# Altium footprint library 模拟光伏追踪系统封装库.PcbLib: 24 footprints (part 2 of 2)
Each footprint in its own frame and in the unit in brackets; x right, y up, seen from the top. Pads: shape width x height; smd on the part's side, far side on the other; paste and mask are expansions set on the pad; w line width, h text height; cw(c..) or ccw(c..) is an arc to the next point about the centre after c.
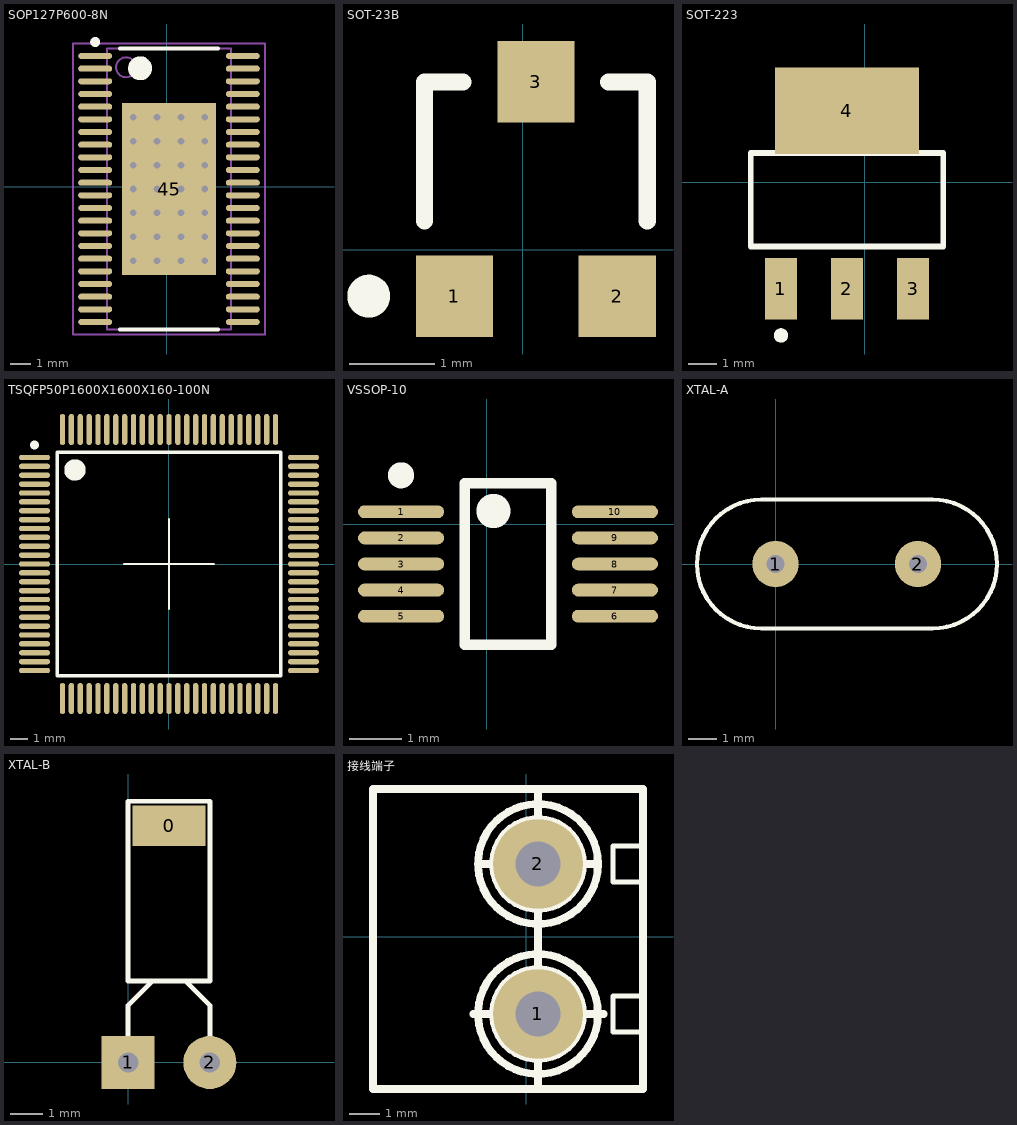
[diagram p1: the footprints below, top view; thin cyan lines are the x and y axes]

## SOP127P600-8N [mm]
pads (45):
  oval 1.7x0.3 smd: 1(-3.598,6.566) 2(-3.598,5.931) 3(-3.598,5.296) 4(-3.598,4.661) 5(-3.598,4.026) 6(-3.598,3.391) 7(-3.598,2.756) 8(-3.598,2.121) 9(-3.598,1.486) 10(-3.598,0.851) 11(-3.598,0.216) 12(-3.598,-0.419) 13(-3.598,-1.054) 14(-3.598,-1.689) 15(-3.598,-2.324) 16(-3.598,-2.959) 17(-3.598,-3.594) 18(-3.598,-4.229) 19(-3.598,-4.864) 20(-3.598,-5.499) 21(-3.598,-6.134) 22(-3.598,-6.769) 23(3.802,-6.769) 24(3.802,-6.134) 25(3.802,-5.499) 26(3.802,-4.864) 27(3.802,-4.229) 28(3.802,-3.594) 29(3.802,-2.959) 30(3.802,-2.324) 31(3.802,-1.689) 32(3.802,-1.054) 33(3.802,-0.419) 34(3.802,0.216) 35(3.802,0.851) 36(3.802,1.486) 37(3.802,2.121) 38(3.802,2.756) 39(3.802,3.391) 40(3.802,4.026) 41(3.802,4.661) 42(3.802,5.296) 43(3.802,5.931) 44(3.802,6.566)
  rect 4.7x8.6 smd: 45(0.102,-0.102)
via 1.902,-3.702 diameter 0.66 hole 0.33
via 0.702,-3.702 diameter 0.66 hole 0.33
via -0.498,-3.702 diameter 0.66 hole 0.33
via -1.698,-3.702 diameter 0.66 hole 0.33
via 1.902,-2.502 diameter 0.66 hole 0.33
via 0.702,-2.502 diameter 0.66 hole 0.33
via -0.498,-2.502 diameter 0.66 hole 0.33
via -1.698,-2.502 diameter 0.66 hole 0.33
via 1.902,-1.302 diameter 0.66 hole 0.33
via 0.702,-1.302 diameter 0.66 hole 0.33
via -0.498,-1.302 diameter 0.66 hole 0.33
via -1.698,-1.302 diameter 0.66 hole 0.33
via 1.902,-0.102 diameter 0.66 hole 0.33
via 0.702,-0.102 diameter 0.66 hole 0.33
via -0.498,-0.102 diameter 0.66 hole 0.33
via -1.698,-0.102 diameter 0.66 hole 0.33
via 1.902,1.098 diameter 0.66 hole 0.33
via 0.702,1.098 diameter 0.66 hole 0.33
via -0.498,1.098 diameter 0.66 hole 0.33
via -1.698,1.098 diameter 0.66 hole 0.33
via 1.902,2.298 diameter 0.66 hole 0.33
via 0.702,2.298 diameter 0.66 hole 0.33
via -0.498,2.298 diameter 0.66 hole 0.33
via -1.698,2.298 diameter 0.66 hole 0.33
via 1.902,3.498 diameter 0.66 hole 0.33
via 0.702,3.498 diameter 0.66 hole 0.33
via -0.498,3.498 diameter 0.66 hole 0.33
via -1.698,3.498 diameter 0.66 hole 0.33
Top Overlay:
  circle w0.6: c-1.348,5.948 r0.3
  circle w0.25: c-3.598,7.266 r0.125
  lines w0.2: -2.348,-7.152 2.552,-7.152 ; -2.348,6.948 2.552,6.948
Mechanical 13:
  circle w0.1: c-2.048,5.998 r0.5
  lines w0.1: -2.998,-7.152 3.202,-7.152 3.202,6.948 -2.998,6.948 -2.998,-7.152
Mechanical 15:
  lines w0.1: -0.398,-0.102 0.602,-0.102 ; 0.102,-0.602 0.102,0.398 ; -4.698,-7.402 4.902,-7.402 4.902,7.198 -4.698,7.198 -4.698,-7.402
3D body: height 1.2, standoff 0.05, extent -2.998,-7.152 3.202,6.948

## SOT-23B [mm]
pads (3):
  rect 0.9x0.95 smd: 1(-0.798,-0.539) 2(1.102,-0.539) 3(0.152,1.961)
Top Overlay:
  circle w0.25: c-1.798,-0.539 r0.125
  lines w0.2: -1.148,0.336 -1.148,1.961 -0.698,1.961 ; 1.002,1.961 1.452,1.961 1.452,0.336

## SOT-223 [mm]
pads (4):
  rect 1.1x2.15 smd: 1(-2.921,-3.708) 2(-0.621,-3.708) 3(1.679,-3.708)
  rect 5x3 smd: 4(-0.621,2.492)
Top Overlay:
  circle w0.25: c-2.921,-5.333 r0.125
  lines w0.2: -3.971,-2.233 -3.971,1.017 2.729,1.017 2.729,-2.233 -3.971,-2.233

## TSQFP50P1600X1600X160-100N [mm] "TSQFP, 100-Leads, Body 16.2x16.2mm (max), Pitch 0.50mm, IPC Medium Density"
height 1.6
pads (100):
  oval 1.75x0.3 smd: 1(-7.575,6) 2(-7.575,5.5) 3(-7.575,5) 4(-7.575,4.5) 5(-7.575,4) 6(-7.575,3.5) 7(-7.575,3) 8(-7.575,2.5) 9(-7.575,2) 10(-7.575,1.5) 11(-7.575,1) 12(-7.575,0.5) 13(-7.575,0) 14(-7.575,-0.5) 15(-7.575,-1) 16(-7.575,-1.5) 17(-7.575,-2) 18(-7.575,-2.5) 19(-7.575,-3) 20(-7.575,-3.5) 21(-7.575,-4) 22(-7.575,-4.5) 23(-7.575,-5) 24(-7.575,-5.5) 25(-7.575,-6) 51(7.575,-6) 52(7.575,-5.5) 53(7.575,-5) 54(7.575,-4.5) 55(7.575,-4) 56(7.575,-3.5) 57(7.575,-3) 58(7.575,-2.5) 59(7.575,-2) 60(7.575,-1.5) 61(7.575,-1) 62(7.575,-0.5) 63(7.575,0) 64(7.575,0.5) 65(7.575,1) 66(7.575,1.5) 67(7.575,2) 68(7.575,2.5) 69(7.575,3) 70(7.575,3.5) 71(7.575,4) 72(7.575,4.5) 73(7.575,5) 74(7.575,5.5) 75(7.575,6)
  oval 0.3x1.75 smd: 26(-6,-7.575) 27(-5.5,-7.575) 28(-5,-7.575) 29(-4.5,-7.575) 30(-4,-7.575) 31(-3.5,-7.575) 32(-3,-7.575) 33(-2.5,-7.575) 34(-2,-7.575) 35(-1.5,-7.575) 36(-1,-7.575) 37(-0.5,-7.575) 38(0,-7.575) 39(0.5,-7.575) 40(1,-7.575) 41(1.5,-7.575) 42(2,-7.575) 43(2.5,-7.575) 44(3,-7.575) 45(3.5,-7.575) 46(4,-7.575) 47(4.5,-7.575) 48(5,-7.575) 49(5.5,-7.575) 50(6,-7.575) 76(6,7.575) 77(5.5,7.575) 78(5,7.575) 79(4.5,7.575) 80(4,7.575) 81(3.5,7.575) 82(3,7.575) 83(2.5,7.575) 84(2,7.575) 85(1.5,7.575) 86(1,7.575) 87(0.5,7.575) 88(0,7.575) 89(-0.5,7.575) 90(-1,7.575) 91(-1.5,7.575) 92(-2,7.575) 93(-2.5,7.575) 94(-3,7.575) 95(-3.5,7.575) 96(-4,7.575) 97(-4.5,7.575) 98(-5,7.575) 99(-5.5,7.575) 100(-6,7.575)
Top Overlay:
  circle w0.6: c-5.3,5.3 r0.3
  circle w0.25: c-7.575,6.7 r0.125
  lines w0.1: -2.54,0 2.54,0 ; 0,-2.54 0,2.54
  lines w0.2: -6.3,-6.3 6.3,-6.3 6.3,6.3 -6.3,6.3 -6.3,-6.3

## VSSOP-10 [mm]
pads (10):
  oval 1.65x0.246 smd: 1(-1.644,0.238) 2(-1.644,-0.262) 3(-1.644,-0.762) 4(-1.644,-1.262) 5(-1.644,-1.762) 6(2.456,-1.762) 7(2.456,-1.262) 8(2.456,-0.762) 9(2.456,-0.262) 10(2.456,0.238)
Top Overlay:
  circle w0.25: c-1.644,0.938 r0.125
  circle w0.6: c0.127,0.254 r0.025
  lines w0.2: -0.419,-2.312 -0.419,0.788 1.231,0.788 1.231,-2.312 -0.419,-2.312

## XTAL-A [mm]
height 4
pads (2):
  round 1.65 hole 0.635: 1(0,0) 2(5.08,0)
Top Overlay:
  lines w0.152: -0.5,-2.3 cw(c-0.5,0) -0.5,2.3 5.6,2.3 cw(c5.6,0) 5.6,-2.3 -0.5,-2.3

## XTAL-B [mm] "32768Hz"
height 5
pads (3):
  rect 2.286x1.27 smd: 0(1.27,7.366)
  rect 1.65x1.65 hole 0.635: 1(0,0)
  round 1.65 hole 0.635: 2(2.54,0)
Top Overlay:
  lines w0.152: 0,0.762 0,1.778 0.762,2.54 ; 1.524,2.54 1.778,2.54 2.54,1.778 2.54,0.762 ; 0,2.54 2.54,2.54 2.54,8.128 0,8.128 0,2.54

## 接线端子 [mm]
pads (2):
  round 3 hole 1.5: 1(0.386,-2.58) 2(0.386,2.42)
Top Overlay:
  circle w0.254: c0.386,-2.58 r1.5
  circle w0.254: c0.386,-2.58 r2
  circle w0.254: c0.386,2.42 r2
  circle w0.254: c0.386,2.42 r1.5
  lines w0.152: 3.886,-3.18 2.886,-3.18 2.886,-1.98 3.886,-1.98 ; 3.886,1.82 2.886,1.82 2.886,3.02 3.886,3.02
  lines w0.254: -1.773,-2.58 2.572,-2.58 ; -1.614,2.42 2.386,2.42 ; 0.386,-5.08 0.386,-0.08 0.386,4.92 ; -5.114,-5.08 -5.114,4.92 3.886,4.92 3.886,-5.08 -5.114,-5.08